# Altium footprint library iMX6 Rex_V1I1_PCB.PcbLib: 27 footprints (part 1 of 2)
Each footprint in its own frame and in the unit in brackets; x right, y up, seen from the top. Pads: shape width x height; smd on the part's side, far side on the other; paste and mask are expansions set on the pad; w line width, h text height; cw(c..) or ccw(c..) is an arc to the next point about the centre after c.
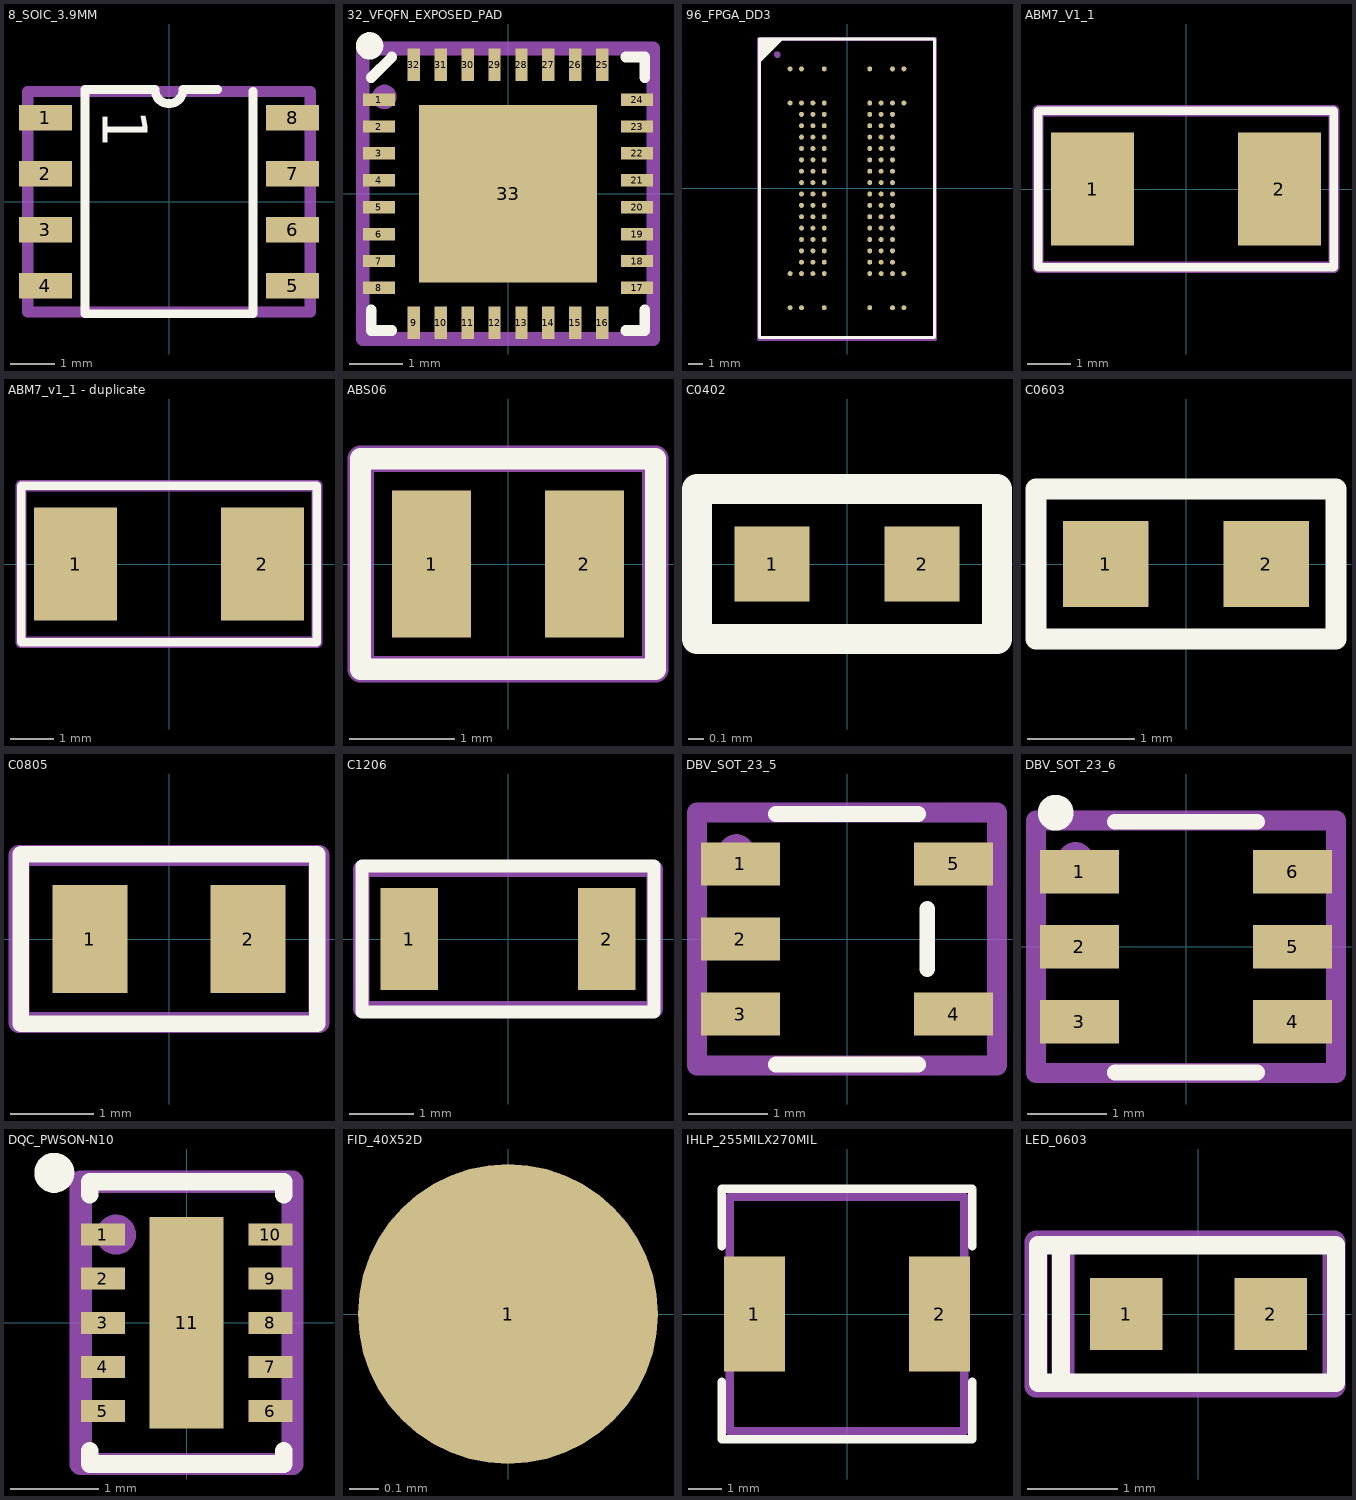
[diagram p0: the footprints below, top view; thin cyan lines are the x and y axes]

## 8_SOIC_3.9MM [mm]
pads (8):
  rect 1.2x0.58 smd: 1(-2.8,1.905) 2(-2.8,0.635) 3(-2.8,-0.635) 4(-2.8,-1.905) 5(2.8,-1.905) 6(2.8,-0.635) 7(2.8,0.635) 8(2.8,1.905)
Top Overlay:
  lines w0.2: 1.1,2.54 0.318,2.54 cw(c0,2.54) -0.318,2.54 -1.905,2.54 -1.905,-2.54 1.905,-2.54 1.905,2.5
  text "1" at -1.5,2.1 h1.02
Mechanical 16:
  circle w0.254: c-2.7,1.9 r0.1
  lines w0.254: -3.2,-2.5 3.2,-2.5 3.2,2.5 -3.2,2.5 -3.2,-2.5
Mechanical 29:
  text ".Designator" at 1.2,0.7 h1.52
3D body: height 1.75, standoff 0, extent -3,-2.45 3,2.45

## 32_VFQFN_EXPOSED_PAD [mm]
pads (33):
  rect 0.6x0.23 smd mask+0.051: 1(-2.4,1.75) 2(-2.4,1.25) 3(-2.4,0.75) 4(-2.4,0.25) 5(-2.4,-0.25) 6(-2.4,-0.75) 7(-2.4,-1.25) 8(-2.4,-1.75) 17(2.4,-1.75) 18(2.4,-1.25) 19(2.4,-0.75) 20(2.4,-0.25) 21(2.4,0.25) 22(2.4,0.75) 23(2.4,1.25) 24(2.4,1.75)
  rect 0.23x0.6 smd mask+0.051: 9(-1.75,-2.4) 10(-1.25,-2.4) 11(-0.75,-2.4) 12(-0.25,-2.4) 13(0.25,-2.4) 14(0.75,-2.4) 15(1.25,-2.4) 16(1.75,-2.4) 25(1.75,2.4) 26(1.25,2.4) 27(0.75,2.4) 28(0.25,2.4) 29(-0.25,2.4) 30(-0.75,2.4) 31(-1.25,2.4) 32(-1.75,2.4)
  rect 3.3x3.3 smd paste-10 mask+0.051: 33(0,0)
Top Overlay:
  circle w0.254: c-2.573,2.75 r0.127
  lines w0.2: -2.54,-2.54 -2.54,-2.159 ; -2.54,2.159 -2.159,2.54 ; -2.508,-2.54 -2.159,-2.54 ; 2.191,-2.54 2.54,-2.54 2.54,-2.159 ; 2.191,2.54 2.54,2.54 2.54,2.159
Top Paste:
  rectangle: 0.1,-1.5 1.5,-0.1
  rectangle: -1.5,-1.5 -0.1,-0.1
  rectangle: 0.1,0.1 1.5,1.5
  rectangle: -1.5,0.1 -0.1,1.5
Mechanical 16:
  circle w0.254: c-2.3,1.8 r0.1
  lines w0.254: -2.7,-2.7 2.7,-2.7 2.7,2.7 -2.7,2.7 -2.7,-2.7
Mechanical 29:
  text ".Designator" at -1.7,-1 h1.52
3D body: height 0.9, standoff 0, extent -2.54,-2.54 2.54,2.54

## 96_FPGA_DD3 [mm]
pads (112):
  round 0.35 smd mask+0.05: A1(-3.2,6) A2(-2.4,6) A3(-1.6,6) A7(1.6,6) A8(2.4,6) A9(3.2,6) B1(-3.2,5.2) B2(-2.4,5.2) B3(-1.6,5.2) B7(1.6,5.2) B8(2.4,5.2) B9(3.2,5.2) C1(-3.2,4.4) C2(-2.4,4.4) C3(-1.6,4.4) C7(1.6,4.4) C8(2.4,4.4) C9(3.2,4.4) D1(-3.2,3.6) D2(-2.4,3.6) D3(-1.6,3.6) D7(1.6,3.6) D8(2.4,3.6) D9(3.2,3.6) E1(-3.2,2.8) E2(-2.4,2.8) E3(-1.6,2.8) E7(1.6,2.8) E8(2.4,2.8) E9(3.2,2.8) F1(-3.2,2) F2(-2.4,2) F3(-1.6,2) F7(1.6,2) F8(2.4,2) F9(3.2,2) G1(-3.2,1.2) G2(-2.4,1.2) G3(-1.6,1.2) G7(1.6,1.2) G8(2.4,1.2) G9(3.2,1.2) H1(-3.2,0.4) H2(-2.4,0.4) H3(-1.6,0.4) H7(1.6,0.4) H8(2.4,0.4) H9(3.2,0.4) J1(-3.2,-0.4) J2(-2.4,-0.4) J3(-1.6,-0.4) J7(1.6,-0.4) J8(2.4,-0.4) J9(3.2,-0.4) K1(-3.2,-1.2) K2(-2.4,-1.2) K3(-1.6,-1.2) K7(1.6,-1.2) K8(2.4,-1.2) K9(3.2,-1.2) L1(-3.2,-2) L2(-2.4,-2) L3(-1.6,-2) L7(1.6,-2) L8(2.4,-2) L9(3.2,-2) M1(-3.2,-2.8) M2(-2.4,-2.8) M3(-1.6,-2.8) M7(1.6,-2.8) M8(2.4,-2.8) M9(3.2,-2.8) MECH01(-4,8.4) MECH02(-3.2,8.4) MECH03(-1.6,8.4) MECH04(1.6,8.4) MECH05(3.2,8.4) MECH06(4,8.4) MECH07(-4,6) MECH08(4,6) MECH09(-4,-6) MECH10(4,-6) MECH11(-4,-8.4) MECH12(-3.2,-8.4) MECH13(-1.6,-8.4) MECH14(1.6,-8.4) MECH15(3.2,-8.4) MECH16(4,-8.4) N1(-3.2,-3.6) N2(-2.4,-3.6) N3(-1.6,-3.6) N7(1.6,-3.6) N8(2.4,-3.6) N9(3.2,-3.6) P1(-3.2,-4.4) P2(-2.4,-4.4) P3(-1.6,-4.4) P7(1.6,-4.4) P8(2.4,-4.4) P9(3.2,-4.4) R1(-3.2,-5.2) R2(-2.4,-5.2) R3(-1.6,-5.2) R7(1.6,-5.2) R8(2.4,-5.2) R9(3.2,-5.2) T1(-3.2,-6) T2(-2.4,-6) T3(-1.6,-6) T7(1.6,-6) T8(2.4,-6) T9(3.2,-6)
Top Overlay:
  region: -6.15,10.5 -4.6,10.5 -4.6,10.472 -6.15,8.922
  lines w0.2: -6.15,8.922 -4.572,10.5 ; -6.15,-10.5 6.15,-10.5 6.15,10.5 -6.15,10.5 -6.15,-10.5
Mechanical 16:
  circle w0.254: c-4.9,9.4 r0.1
  lines w0.254: -6.2,-10.6 -6.2,10.5 6.2,10.5 6.2,-10.6 -6.2,-10.6
Mechanical 29:
  text ".Designator" at -0.9,1.2 h1.52
3D body: height 1.2, standoff 0, extent -6.159,-10.541 6.159,10.541

## ABM7_V1_1 [mm]
pads (2):
  rect 1.9x2.6 smd: 1(-2.15,0) 2(2.15,0)
Top Overlay:
  lines w0.2: -3.4,-1.8 -3.4,1.8 3.4,1.8 3.4,-1.8 -3.4,-1.8
Mechanical 16:
  lines w0.254: -3.4,-1.8 -3.4,1.8 3.4,1.8 3.4,-1.8 -3.4,-1.8
Mechanical 29:
  text ".Designator" at 1.1,0.9 h1.52
3D body: height 1.44, standoff 1.2, extent -2,-1.4 2,1.4
3D body: height -1.6, standoff -3.04, extent -3.05,-1.75 3.05,1.75

## ABM7_v1_1 - duplicate [mm]
pads (2):
  rect 1.9x2.6 smd: 1(-2.15,0) 2(2.15,0)
Top Overlay:
  lines w0.2: -3.4,-1.8 -3.4,1.8 3.4,1.8 3.4,-1.8 -3.4,-1.8
Mechanical 16:
  lines w0.254: -3.4,-1.8 -3.4,1.8 3.4,1.8 3.4,-1.8 -3.4,-1.8
Mechanical 29:
  text ".Designator" at 1.25,0.75 h1.52
3D body: height 1.44, standoff 1.2, extent -2,-1.4 2,1.4
3D body: height -1.6, standoff -3.04, extent -3.05,-1.75 3.05,1.75

## ABS06 [mm]
pads (2):
  rect 0.75x1.4 smd: 1(-0.725,0) 2(0.725,0)
Top Overlay:
  lines w0.2: -1.4,-1 1.4,-1 1.4,1 -1.4,1 -1.4,0 -1.4,-1
Mechanical 16:
  lines w0.254: -1.4,-1 -1.4,1 1.4,1 1.4,-1 -1.4,-1
Mechanical 29:
  text ".Designator" at 0.5,0.3 h0.6
3D body: height 1, standoff 0.5, extent -0.825,-0.36 0.825,0.34
3D body: height 0.6, standoff 0, extent -1,-0.62 1,0.6

## C0402 [mm]
pads (2):
  rect 0.5x0.5 smd: 1(-0.5,0) 2(0.5,0)
Top Overlay:
  lines w0.2: -1,-0.5 1,-0.5 1,0.5 -1,0.5 -1,-0.5
Mechanical 16:
  lines w0.15: -1,-0.5 1,-0.5 1,0.5 -1,0.5 -1,-0.5
Mechanical 29:
  text ".Designator" at 0.3,0.2 h0.4
3D body: height 0.56, standoff 0, extent -0.5,-0.25 0.5,0.25

## C0603 [mm]
pads (2):
  rect 0.8x0.8 smd: 1(-0.75,0) 2(0.75,0)
Top Overlay:
  lines w0.2: -1.4,-0.7 -1.4,0.7 1.4,0.7 1.4,-0.7 -1.4,-0.7
Mechanical 16:
  lines w0.15: -1.4,-0.7 1.4,-0.7 1.4,0.7 -1.4,0.7 -1.4,-0.7
Mechanical 29:
  text ".Designator" at 0.7,0.3 h0.6
3D body: height 0.79, standoff 0, extent -0.8,-0.425 0.8,0.435
3D body: height 0.95, standoff 0.15, extent -0.8,-0.425 0.8,0.435

## C0805 [mm]
pads (2):
  rect 0.9x1.3 smd: 1(-0.95,0) 2(0.95,0)
Top Overlay:
  lines w0.2: -1.778,-1.016 1.778,-1.016 1.778,1.016 -1.778,1.016 -1.778,-1.016
Mechanical 16:
  lines w0.254: -1.8,-1 1.8,-1 1.8,1 -1.8,1 -1.8,-1
Mechanical 29:
  text ".Designator" at -1,-0.3 h0.6
3D body: height 0.95, standoff 0, extent -1,-0.6 1,0.6
3D body: height 1.5, standoff 0.55, extent -1,-0.6 1,0.6

## C1206 [mm]
pads (2):
  rect 0.9x1.6 smd: 1(-1.55,0) 2(1.55,0)
Top Overlay:
  lines w0.2: -2.286,-1.143 -2.286,1.143 2.286,1.143 2.286,-1.143 -2.286,-1.143
Mechanical 16:
  lines w0.254: -2.3,-1.1 2.3,-1.1 2.3,1.1 -2.3,1.1 -2.3,-1.1
Mechanical 29:
  text ".Designator" at -1.7,-0.5 h1
3D body: height 0.95, standoff 0, extent -1.6,-0.8 1.6,0.8
3D body: height 1.8, standoff 0.85, extent -1.6,-0.8 1.6,0.8

## DBV_SOT_23_5 [mm]
pads (5):
  rect 1x0.55 smd: 1(-1.35,0.95) 2(-1.35,0) 3(-1.35,-0.95) 4(1.35,-0.95) 5(1.35,0.95)
Top Overlay:
  lines w0.2: -0.9,-1.59 0.9,-1.59 ; -0.9,1.585 0.9,1.585 ; 1.016,-0.381 1.016,0.381
Mechanical 16:
  circle w0.254: c-1.4,1.1 r0.1
  lines w0.254: -1.9,-1.6 -1.9,1.6 1.9,1.6 1.9,-1.6 -1.9,-1.6
Mechanical 29:
  text ".Designator" at 0.4,0.4 h0.6
3D body: height 1.45, standoff -0.01, extent -1.5,-1.5 1.5,1.5

## DBV_SOT_23_6 [mm]
pads (6):
  rect 1x0.55 smd: 1(-1.35,0.95) 2(-1.35,0) 3(-1.35,-0.95) 4(1.35,-0.95) 5(1.35,0) 6(1.35,0.95)
Top Overlay:
  circle w0.254: c-1.65,1.7 r0.1
  lines w0.2: -0.9,-1.59 0.9,-1.59 ; -0.9,1.585 0.9,1.585
Mechanical 16:
  circle w0.254: c-1.4,1.1 r0.1
  lines w0.254: -1.9,-1.6 1.9,-1.6 1.9,1.6 -1.9,1.6 -1.9,-1.6
Mechanical 29:
  text ".Designator" at 0,0.5 h0.6
3D body: height 1.2, standoff 0, extent 0.889,0.699 1.587,1.206
3D body: height 1.2, standoff 0, extent 0.889,-0.254 1.587,0.254
3D body: height 1.2, standoff 0, extent 0.889,-1.206 1.587,-0.699
3D body: height 1.2, standoff 0, extent -1.587,-1.206 -0.889,-0.699
3D body: height 1.2, standoff 0, extent -1.587,-0.254 -0.889,0.254
3D body: height 1.2, standoff 0, extent -1.587,0.699 -0.889,1.206
3D body: height 1.45, standoff 0, extent -0.889,-1.587 0.889,1.587

## DQC_PWSON-N10 [mm]
pads (11):
  rect 0.5x0.25 smd mask+0.07: 1(-0.95,1) 2(-0.95,0.5) 3(-0.95,0) 4(-0.95,-0.5) 5(-0.95,-1) 6(0.95,-1) 7(0.95,-0.5) 8(0.95,0) 9(0.95,0.5) 10(0.95,1)
  rect 0.84x2.4 smd mask+0.07: 11(0,0)
Top Overlay:
  circle w0.254: c-1.5,1.7 r0.1
  lines w0.2: -1.1,-1.45 -1.1,-1.6 1.1,-1.6 1.1,-1.45 ; -1.1,1.45 -1.1,1.6 1.1,1.6 1.1,1.45
Mechanical 16:
  circle w0.254: c-0.8,1 r0.1
  lines w0.254: -1.2,-1.6 -1.2,1.6 1.2,1.6 1.2,-1.6 -1.2,-1.6
Mechanical 29:
  text ".Designator" at 0.4,-0.7 h0.6
3D body: height 0.8, standoff 0, extent -1,-1.5 1,1.5

## FID_40X52D [mil]
pads (1):
  round 40 smd paste-40 mask+5.91: 1(0,0)

## IHLP_255MILX270MIL [mil]
pads (2):
  rect 72x135 smd: 1(-109,0) 2(109,0)
Top Overlay:
  lines w10: -147.64,-80 -147.64,-147.64 147.64,-147.64 147.64,-80 ; -147.64,80 -147.64,147.64 147.64,147.64 147.64,80
Mechanical 16:
  lines w10: -137.8,-137.8 -137.8,137.8 137.8,137.8 137.8,-137.8 -137.8,-137.8
Mechanical 29:
  text ".Designator" at 19.68,19.68 h60
3D body: height 78.74, standoff 0, extent 119.34,-62.92 135.09,63.06
3D body: height 78.74, standoff 0, extent -134.93,-62.92 -119.18,63.07
3D body: height 118.11, standoff 0, extent -119.25,-106.42 -95.53,106.57
3D body: height 118.11, standoff 0, extent 95.63,-106.43 119.34,106.57
3D body: height 118.11, standoff 0, extent 72.2,-130 119.25,-82.85
3D body: height 118.11, standoff 0, extent 72.19,82.95 119.34,130.01
3D body: height 118.11, standoff 0, extent -119.25,82.94 -72.1,130
3D body: height 118.11, standoff 0, extent -119.25,-130 -72.19,-82.85
3D body: height 118.11, standoff 0, extent -95.72,-130 95.77,130.01

## LED_0603 [mm]
pads (2):
  rect 0.8x0.8 smd: 1(-0.8,0) 2(0.8,0)
Top Overlay:
  lines w0.2: -1.524,-0.762 -1.524,0.762 ; -1.778,-0.762 -1.778,0.762 1.524,0.762 1.524,-0.762 -1.778,-0.762
Mechanical 16:
  lines w0.254: -1.5,-0.8 -1.5,0.8 ; -1.8,-0.8 1.5,-0.8 1.5,0.8 -1.8,0.8 -1.8,-0.8
Mechanical 29:
  text ".Designator" at -0.4,-0.3 h0.6
3D body: height 0.66, standoff 0.5, extent -0.2,-0.2 0.2,0.2
3D body: height 0.65, standoff 0, extent -0.85,-0.4 0.85,0.4